# Altium integrated library 1462039-8 - Kopie.IntLib: 1 symbol
Pins are listed as number, name and electrical type; pins without a type are passive.

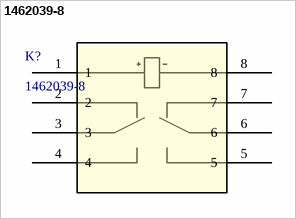
[diagram p0: symbol 1462039-8]

## 1462039-8
designator K?
IM48GR=IM RELAY 100 MW 2.4 V BI; Manufacturer_Name: TE Connectivity; Copyright: Copyright (C) 2026 Ultra Librarian. All rights reserved.; Manufacturer_Part_Number: 1462039-8; RefDes: RefDes; Type: Type
footprint RELAY8_SMTGUL_TEC
pins: 1, 2, 3, 4, 5, 6, 7, 8